# Altium integrated library National Semiconductor Amplifier.IntLib: 1665 symbols (part 1 of 44)
Pins are listed as number, name and electrical type; pins without a type are passive.

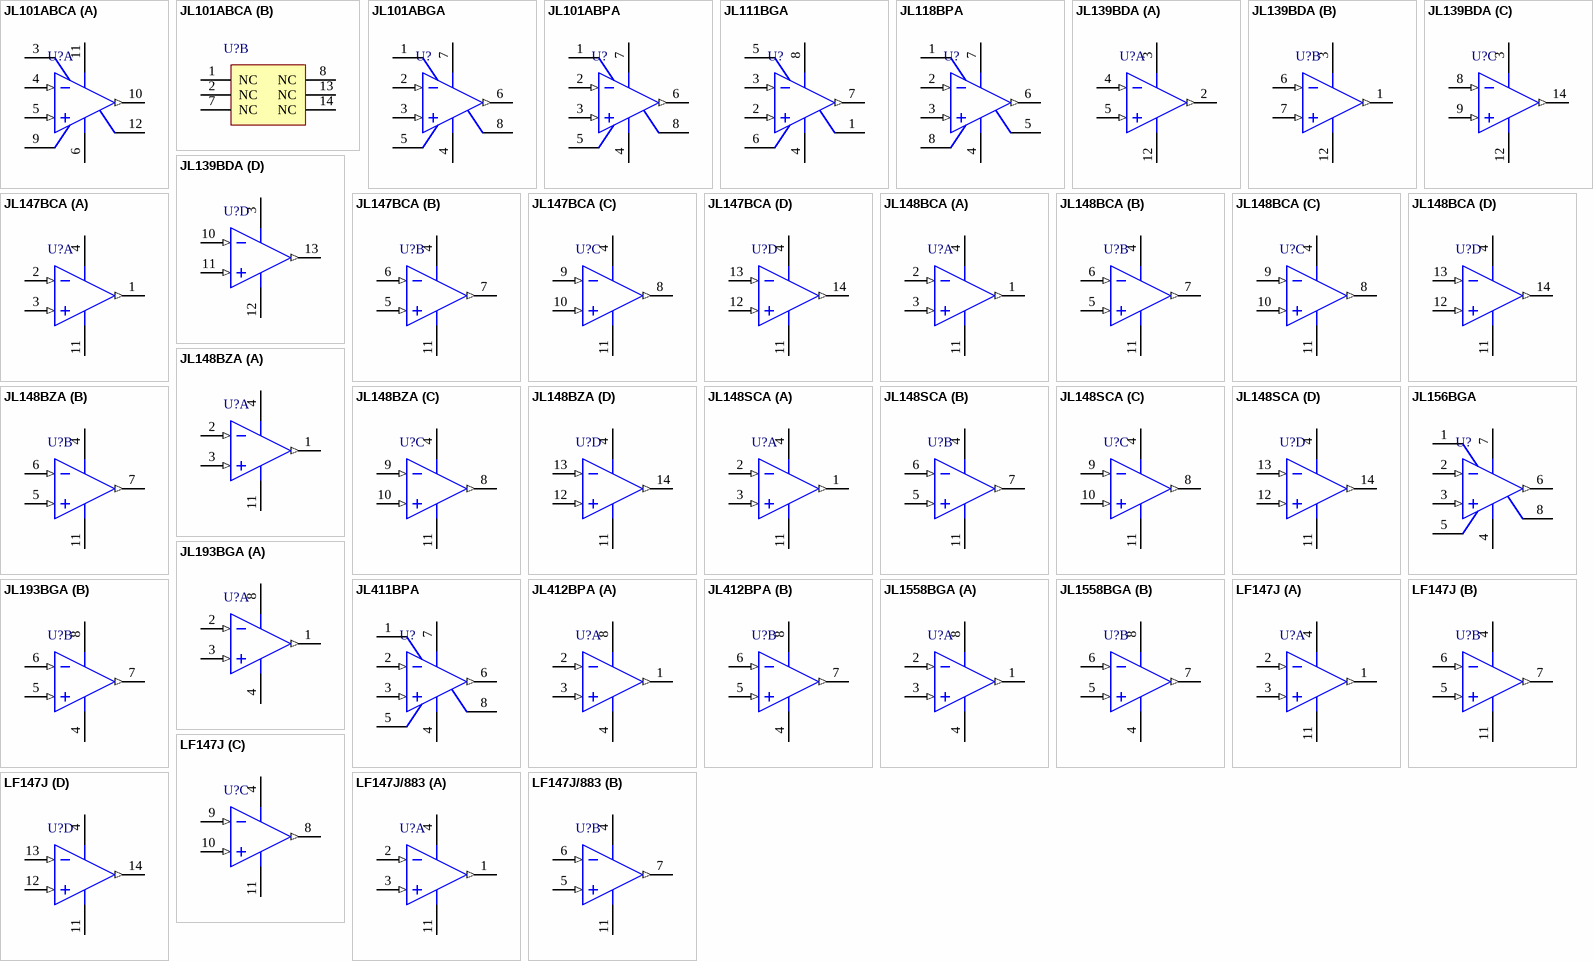
[diagram p0: symbols JL101ABCA to LF147J/883]

## JL101ABCA
designator U?
Operational Amplifier, 14-pin CerDIP; PartNumber: JL101ABCA; Manufacturer: National Semiconductor; PackageTopMarking: NS ZSSXXYYA*JM38510/10103BCA*27014 Q; PowerWise: N; CompType: Amplifiers; High-Reliability: Y; DatasheetVersion: Aug-2000; PackageVersion: revJ, Jul-2002; PackageReference: J14A; PackageDescription: Cerdip, .400 x .310in Body, 14 Lead, .300in Centers, .100in Pitch; RoHS: N; PinCount: 14; ComponentLink1Description: Manufacturer URL; ComponentLink1URL: http://www.national.com/; ComponentLink2Description: LM101AJAN Datasheet; ComponentLink2URL: http://www.national.com/ds/LM/LM101AJAN.pdf; ComponentLink3Description: LM101AJAN Web Page; ComponentLink3URL: http://www.national.com/pf/LM/LM101AJAN.html; ComponentLink4Description: J14A Package Page; ComponentLink4URL: http://www.national.com/packaging/folders/j14a.html
footprint J14A (DIP, 14-Leads, Row Spacing 7.62mm, Pitch 2.54mm, Body 19.56x6.73mm)
part A pins: 3 BAL/COMP, 4 IN- (in), 5 IN+ (in), 6 V- (power), 9 BAL, 10 OUT (out), 11 V+ (power), 12 COMP
part B pins: 1 NC, 2 NC, 7 NC, 8 NC, 13 NC, 14 NC

## JL101ABGA
designator U?
Operational Amplifier, 8-pin TO-99; PartNumber: JL101ABGA; Manufacturer: National Semiconductor; PackageTopMarking: NS ZSSXXYYA 27014 Q*JM38510/10103BGA; PowerWise: N; CompType: Amplifiers; High-Reliability: Y; DatasheetVersion: Aug-2000; PackageVersion: revF, Jun-1995; PackageReference: H08C; PackageDescription: Metal Can, TO-99, 8 Lead, .200 Dia., P.C.; RoHS: N; PinCount: 8; Code_JEDEC: TO-99; ComponentLink1Description: Manufacturer URL; ComponentLink1URL: http://www.national.com/; ComponentLink2Description: LM101AJAN Datasheet; ComponentLink2URL: http://www.national.com/ds/LM/LM101AJAN.pdf; ComponentLink3Description: LM101AJAN Web Page; ComponentLink3URL: http://www.national.com/pf/LM/LM101AJAN.html; ComponentLink4Description: H08C Package Page; ComponentLink4URL: http://www.national.com/packaging/folders/h08c.html
footprint H08C (Can; 8 Leads; Pin Circle Dia. 5.08 mm; Lead Dia. 0.48 mm (max))
pins: 1 BAL/COMP, 2 IN- (in), 3 IN+ (in), 4 V- (power), 5 BAL, 6 OUT (out), 7 V+ (power), 8 COMP

## JL101ABPA
designator U?
Operational Amplifier, 8-pin CerDIP; PartNumber: JL101ABPA; Manufacturer: National Semiconductor; PackageTopMarking: NS JM38510*/10103BPA*27014 Q*ZSSXXYYA; PowerWise: N; CompType: Amplifiers; High-Reliability: Y; DatasheetVersion: Aug-2000; PackageVersion: revM, Jul-2002; PackageReference: J08A; PackageDescription: Cerdip, .400 x .310in Body, 8 Lead, .300in Centers, .100in Pitch; RoHS: N; PinCount: 8; ComponentLink1Description: Manufacturer URL; ComponentLink1URL: http://www.national.com/; ComponentLink2Description: LM101AJAN Datasheet; ComponentLink2URL: http://www.national.com/ds/LM/LM101AJAN.pdf; ComponentLink3Description: LM101AJAN Web Page; ComponentLink3URL: http://www.national.com/pf/LM/LM101AJAN.html; ComponentLink4Description: J08A Package Page; ComponentLink4URL: http://www.national.com/packaging/folders/j08a.html
footprint J08A (DIP, 8-Leads, Row Spacing 7.62mm, Pitch 2.54mm, Body 9.78x6.73mm)
pins: 1 BAL/COMP, 2 IN- (in), 3 IN+ (in), 4 V- (power), 5 BAL, 6 OUT (out), 7 V+ (power), 8 COMP

## JL111BGA
designator U?
Voltage Comparator, 8-pin TO-99; PartNumber: JL111BGA; Manufacturer: National Semiconductor; PackageTopMarking: NS ZSSXXYYA 27014 Q*JM38510/10304BGA; PowerWise: N; CompType: Amplifiers; High-Reliability: Y; DatasheetVersion: Jan-2001; PackageVersion: revF, Jun-1995; PackageReference: H08C; PackageDescription: Metal Can, TO-99, 8 Lead, .200 Dia., P.C.; RoHS: N; PinCount: 8; Code_JEDEC: TO-99; ComponentLink1Description: Manufacturer URL; ComponentLink1URL: http://www.national.com/; ComponentLink2Description: LM111JAN Datasheet; ComponentLink2URL: http://www.national.com/ds/LM/LM111JAN.pdf; ComponentLink3Description: LM111JAN Web Page; ComponentLink3URL: http://www.national.com/pf/LM/LM111JAN.html; ComponentLink4Description: H08C Package Page; ComponentLink4URL: http://www.national.com/packaging/folders/h08c.html
footprint H08C (Can; 8 Leads; Pin Circle Dia. 5.08 mm; Lead Dia. 0.48 mm (max))
pins: 1 GND (power), 2 IN+ (in), 3 IN- (in), 4 V- (power), 5 BAL, 6 BAL/STB, 7 OUT (out), 8 V+ (power)

## JL118BPA
designator U?
Operational Amplifier, 8-pin CerDIP; PartNumber: JL118BPA; Manufacturer: National Semiconductor; PackageTopMarking: NS JM38510*/10107BPA*27014 Q*ZSSXXYYA; PowerWise: N; CompType: Amplifiers; High-Reliability: Y; DatasheetVersion: Aug-2000; PackageVersion: revM, Jul-2002; PackageReference: J08A; PackageDescription: Cerdip, .400 x .310in Body, 8 Lead, .300in Centers, .100in Pitch; RoHS: N; PinCount: 8; ComponentLink1Description: Manufacturer URL; ComponentLink1URL: http://www.national.com/; ComponentLink2Description: LM118JAN Datasheet; ComponentLink2URL: http://www.national.com/ds/LM/LM118JAN.pdf; ComponentLink3Description: LM118JAN Web Page; ComponentLink3URL: http://www.national.com/pf/LM/LM118JAN.html; ComponentLink4Description: J08A Package Page; ComponentLink4URL: http://www.national.com/packaging/folders/j08a.html
footprint J08A (DIP, 8-Leads, Row Spacing 7.62mm, Pitch 2.54mm, Body 9.78x6.73mm)
pins: 1 BAL/COMP1, 2 IN- (in), 3 IN+ (in), 4 V- (power), 5 BAL/COMP3, 6 OUT (out), 7 V+ (power), 8 COMP2

## JL139BDA
designator U?
Low Power Low Offset Voltage Quad Comparator, 14-pin CerPACK; PartNumber: JL139BDA; Manufacturer: National Semiconductor; PackageTopMarking: NSZSSXXYYA*JM38510/*11201BDA*27014 Q; PowerWise: N; CompType: Amplifiers; High-Reliability: Y; DatasheetVersion: Mar-2004; PackageVersion: revP, Jun-2004; PackageReference: W14B; PackageDescription: Cerpack, .390 x .250 x .070in Body, 14 Lead, .050in Pitch; RoHS: N; PinCount: 14; Code_JEDEC: MO-092-AB; ComponentLink1Description: Manufacturer URL; ComponentLink1URL: http://www.national.com/; ComponentLink2Description: LM139JAN Datasheet; ComponentLink2URL: http://www.national.com/ds/LM/LM139JAN.pdf; ComponentLink3Description: LM139JAN Web Page; ComponentLink3URL: http://www.national.com/pf/LM/LM139JAN.html; ComponentLink4Description: W14B Package Page; ComponentLink4URL: http://www.national.com/packaging/folders/w14b.html
footprint W14B (DFP; 14 Leads; Body 9.8 x 7.1 mm (LxW max); Pitch 1.27 mm)
pins on every part: 3 V+ (power), 12 GND (power)
part A pins: 2 OUT1 (out), 4 IN1- (in), 5 IN1+ (in)
part B pins: 1 OUT2 (out), 6 IN2- (in), 7 IN2+ (in)
part C pins: 8 IN3- (in), 9 IN3+ (in), 14 OUT3 (out)
part D pins: 10 IN4- (in), 11 IN4+ (in), 13 OUT4 (out)

## JL147BCA
designator U?
Wide Bandwidth Quad JFET Input Operational Amplifier, 14-pin CerDIP; PartNumber: JL147BCA; Manufacturer: National Semiconductor; PackageTopMarking: NS ZSSXXYYA*JM38510/11906BCA*27014 Q; PowerWise: N; CompType: Amplifiers; High-Reliability: Y; DatasheetVersion: Aug-2000; PackageVersion: revJ, Jul-2002; PackageReference: J14A; PackageDescription: Cerdip, .400 x .310in Body, 14 Lead, .300in Centers, .100in Pitch; RoHS: N; PinCount: 14; ComponentLink1Description: Manufacturer URL; ComponentLink1URL: http://www.national.com/; ComponentLink2Description: LF147JAN Datasheet; ComponentLink2URL: http://www.national.com/ds/LF/LF147JAN.pdf; ComponentLink3Description: LF147JAN Web Page; ComponentLink3URL: http://www.national.com/pf/LF/LF147JAN.html; ComponentLink4Description: J14A Package Page; ComponentLink4URL: http://www.national.com/packaging/folders/j14a.html
footprint J14A (DIP, 14-Leads, Row Spacing 7.62mm, Pitch 2.54mm, Body 19.56x6.73mm)
pins on every part: 4 V+ (power), 11 V- (power)
part A pins: 1 OUT1 (out), 2 IN1- (in), 3 IN1+ (in)
part B pins: 5 IN2+ (in), 6 IN2- (in), 7 OUT2 (out)
part C pins: 8 OUT3 (out), 9 IN3- (in), 10 IN3+ (in)
part D pins: 12 IN4+ (in), 13 IN4- (in), 14 OUT4 (out)

## JL148BCA
designator U?
Series Quad 741 Op Amp, 14-pin CerDIP; PartNumber: JL148BCA; Manufacturer: National Semiconductor; PackageTopMarking: NS ZSSXXYYA*JM38510/11001BCA*27014 Q; PowerWise: N; CompType: Amplifiers; High-Reliability: Y; DatasheetVersion: Nov-2003; PackageVersion: revJ, Jul-2002; PackageReference: J14A; PackageDescription: Cerdip, .400 x .310in Body, 14 Lead, .300in Centers, .100in Pitch; RoHS: N; PinCount: 14; ComponentLink1Description: Manufacturer URL; ComponentLink1URL: http://www.national.com/; ComponentLink2Description: LM148JAN Datasheet; ComponentLink2URL: http://www.national.com/ds/LM/LM148JAN.pdf; ComponentLink3Description: LM148JAN Web Page; ComponentLink3URL: http://www.national.com/pf/LM/LM148JAN.html; ComponentLink4Description: J14A Package Page; ComponentLink4URL: http://www.national.com/packaging/folders/j14a.html
footprint J14A (DIP, 14-Leads, Row Spacing 7.62mm, Pitch 2.54mm, Body 19.56x6.73mm)
pins on every part: 4 V+ (power), 11 V- (power)
part A pins: 1 OUT1 (out), 2 IN1- (in), 3 IN1+ (in)
part B pins: 5 IN2+ (in), 6 IN2- (in), 7 OUT2 (out)
part C pins: 8 OUT3 (out), 9 IN3- (in), 10 IN3+ (in)
part D pins: 12 IN4+ (in), 13 IN4- (in), 14 OUT4 (out)

## JL148BZA
designator U?
Series Quad 741 Op Amp, 14-pin CerPACK; PartNumber: JL148BZA; Manufacturer: National Semiconductor; PackageTopMarking: NSZSSXXYYA*JM38510/*11001BZA*27014 Q; PowerWise: N; CompType: Amplifiers; High-Reliability: Y; DatasheetVersion: Nov-2003; PackageVersion: revD, Jul-2007; PackageReference: WG14A; PackageDescription: Cerpack, .390 x .250 x .070in, 14 Lead, .050in Pitch, Gull Wing; RoHS: N; PinCount: 14; ComponentLink1Description: Manufacturer URL; ComponentLink1URL: http://www.national.com/; ComponentLink2Description: LM148 Datasheet; ComponentLink2URL: http://www.national.com/ds/LM/LM148.pdf; ComponentLink3Description: LM148 Web Page; ComponentLink3URL: http://www.national.com/pf/LM/LM148.html; ComponentLink4Description: WG14A Package Page; ComponentLink4URL: http://www.national.com/packaging/folders/wg14a.html
footprint WG14A_N (CERPACK, 14-Leads, Body 9.9x6.5mm, Pitch 1.27mm, IPC Medium Density)
footprint WG14A_L (CERPACK, 14-Leads, Body 9.9x6.5mm, Pitch 1.27mm, IPC High Density)
footprint WG14A_M (CERPACK, 14-Leads, Body 9.9x6.5mm, Pitch 1.27mm, IPC Low Density)
pins on every part: 4 V+ (power), 11 V- (power)
part A pins: 1 OUT1 (out), 2 IN1- (in), 3 IN1+ (in)
part B pins: 5 IN2+ (in), 6 IN2- (in), 7 OUT2 (out)
part C pins: 8 OUT3 (out), 9 IN3- (in), 10 IN3+ (in)
part D pins: 12 IN4+ (in), 13 IN4- (in), 14 OUT4 (out)

## JL148SCA
designator U?
Series Quad 741 Op Amp, 14-pin CerDIP; PartNumber: JL148SCA; Manufacturer: National Semiconductor; PackageTopMarking: NS ZSSXXYYA*JM38510/11001SCA*27014 Q; PowerWise: N; CompType: Amplifiers; High-Reliability: Y; DatasheetVersion: Nov-2003; PackageVersion: revJ, Jul-2002; PackageReference: J14A; PackageDescription: Cerdip, .400 x .310in Body, 14 Lead, .300in Centers, .100in Pitch; RoHS: N; PinCount: 14; ComponentLink1Description: Manufacturer URL; ComponentLink1URL: http://www.national.com/; ComponentLink2Description: LM148JAN Datasheet; ComponentLink2URL: http://www.national.com/ds/LM/LM148JAN.pdf; ComponentLink3Description: LM148JAN Web Page; ComponentLink3URL: http://www.national.com/pf/LM/LM148JAN.html; ComponentLink4Description: J14A Package Page; ComponentLink4URL: http://www.national.com/packaging/folders/j14a.html
footprint J14A (DIP, 14-Leads, Row Spacing 7.62mm, Pitch 2.54mm, Body 19.56x6.73mm)
pins on every part: 4 V+ (power), 11 V- (power)
part A pins: 1 OUT1 (out), 2 IN1- (in), 3 IN1+ (in)
part B pins: 5 IN2+ (in), 6 IN2- (in), 7 OUT2 (out)
part C pins: 8 OUT3 (out), 9 IN3- (in), 10 IN3+ (in)
part D pins: 12 IN4+ (in), 13 IN4- (in), 14 OUT4 (out)

## JL156BGA
designator U?
JFET Input Operational Amplifier, 8-pin TO-99; PartNumber: JL156BGA; Manufacturer: National Semiconductor; PackageTopMarking: NS ZSSXXYYA 27014 Q*JM38510/11402BGA; PowerWise: N; CompType: Amplifiers; High-Reliability: Y; DatasheetVersion: Dec-2001; PackageVersion: revF, Jun-1995; PackageReference: H08C; PackageDescription: Metal Can, TO-99, 8 Lead, .200 Dia., P.C.; RoHS: N; PinCount: 8; Code_JEDEC: TO-99; ComponentLink1Description: Manufacturer URL; ComponentLink1URL: http://www.national.com/; ComponentLink2Description: LF156JAN Datasheet; ComponentLink2URL: http://www.national.com/ds/LF/LF156JAN.pdf; ComponentLink3Description: LF156JAN Web Page; ComponentLink3URL: http://www.national.com/pf/LF/LF156JAN.html; ComponentLink4Description: H08C Package Page; ComponentLink4URL: http://www.national.com/packaging/folders/h08c.html
footprint H08C (Can; 8 Leads; Pin Circle Dia. 5.08 mm; Lead Dia. 0.48 mm (max))
pins: 1 BAL, 2 IN- (in), 3 IN+ (in), 4 V- (power), 5 BAL, 6 OUT (out), 7 V+ (power), 8 NC

## JL193BGA
designator U?
Low Power Low Offset Voltage Dual Comparator, 8-pin TO-99; PartNumber: JL193BGA; Manufacturer: National Semiconductor; PackageTopMarking: NS ZSSXXYYA 27014 Q*JM38510/11202BGA; PowerWise: N; CompType: Amplifiers; High-Reliability: Y; DatasheetVersion: Aug-2002; PackageVersion: revF, Jun-1995; PackageReference: H08C; PackageDescription: Metal Can, TO-99, 8 Lead, .200 Dia., P.C.; RoHS: N; PinCount: 8; Code_JEDEC: TO-99; ComponentLink1Description: Manufacturer URL; ComponentLink1URL: http://www.national.com/; ComponentLink2Description: LM193JAN Datasheet; ComponentLink2URL: http://www.national.com/ds/LM/LM193JAN.pdf; ComponentLink3Description: LM193JAN Web Page; ComponentLink3URL: http://www.national.com/pf/LM/LM193JAN.html; ComponentLink4Description: H08C Package Page; ComponentLink4URL: http://www.national.com/packaging/folders/h08c.html
footprint H08C (Can; 8 Leads; Pin Circle Dia. 5.08 mm; Lead Dia. 0.48 mm (max))
pins on every part: 4 GND (power), 8 V+ (power)
part A pins: 1 OUTA (out), 2 INA- (in), 3 INA+ (in)
part B pins: 5 INB+ (in), 6 INB- (in), 7 OUTB (out)

## JL411BPA
designator U?
Low Offset, Low Drift JFET Input Operational Amplifier, 8-pin CerDIP; PartNumber: JL411BPA; Manufacturer: National Semiconductor; PackageTopMarking: NS JM38510*/11904BPA*27014 Q*ZSSXXYYA; PowerWise: N; CompType: Amplifiers; High-Reliability: Y; DatasheetVersion: Oct-2005; PackageVersion: revM, Jul-2002; PackageReference: J08A; PackageDescription: Cerdip, .400 x .310in Body, 8 Lead, .300in Centers, .100in Pitch; RoHS: N; PinCount: 8; ComponentLink1Description: Manufacturer URL; ComponentLink1URL: http://www.national.com/; ComponentLink2Description: LF411JAN Datasheet; ComponentLink2URL: http://www.national.com/ds/LF/LF411JAN.pdf; ComponentLink3Description: LF411JAN Web Page; ComponentLink3URL: http://www.national.com/pf/LF/LF411JAN.html; ComponentLink4Description: J08A Package Page; ComponentLink4URL: http://www.national.com/packaging/folders/j08a.html
footprint J08A (DIP, 8-Leads, Row Spacing 7.62mm, Pitch 2.54mm, Body 9.78x6.73mm)
pins: 1 BAL, 2 IN- (in), 3 IN+ (in), 4 V- (power), 5 BAL, 6 OUT (out), 7 V+ (power), 8 NC

## JL412BPA
designator U?
Low Offset, Low Drift Dual JFET Input Operational Amplifier, 8-pin CerDIP; PartNumber: JL412BPA; Manufacturer: National Semiconductor; PackageTopMarking: NS JM38510*/11905BPA*27014 Q*ZSSXXYYA; PowerWise: N; CompType: Amplifiers; High-Reliability: Y; DatasheetVersion: Jan-2010; PackageVersion: revM, Jul-2002; PackageReference: J08A; PackageDescription: Cerdip, .400 x .310in Body, 8 Lead, .300in Centers, .100in Pitch; RoHS: N; PinCount: 8; ComponentLink1Description: Manufacturer URL; ComponentLink1URL: http://www.national.com/; ComponentLink2Description: LF412JAN Datasheet; ComponentLink2URL: http://www.national.com/ds/LF/LF412JAN.pdf; ComponentLink3Description: LF412JAN Web Page; ComponentLink3URL: http://www.national.com/pf/LF/LF412JAN.html; ComponentLink4Description: J08A Package Page; ComponentLink4URL: http://www.national.com/packaging/folders/j08a.html
footprint J08A (DIP, 8-Leads, Row Spacing 7.62mm, Pitch 2.54mm, Body 9.78x6.73mm)
pins on every part: 4 V- (power), 8 V+ (power)
part A pins: 1 OUTA (out), 2 INA- (in), 3 INA+ (in)
part B pins: 5 INB+ (in), 6 INB- (in), 7 OUTB (out)

## JL1558BGA
designator U?
Dual Operational Amplifier, 8-pin TO-99; PartNumber: JL1558BGA; Manufacturer: National Semiconductor; PackageTopMarking: NS ZSSXXYYA 27014 Q*JM38510/10108BGA; PowerWise: N; CompType: Amplifiers; High-Reliability: Y; DatasheetVersion: Aug-2003; PackageVersion: revF, Jun-1995; PackageReference: H08C; PackageDescription: Metal Can, TO-99, 8 Lead, .200 Dia., P.C.; RoHS: N; PinCount: 8; Code_JEDEC: TO-99; ComponentLink1Description: Manufacturer URL; ComponentLink1URL: http://www.national.com/; ComponentLink2Description: LM1558JAN Datasheet; ComponentLink2URL: http://www.national.com/ds/LM/LM1558JAN.pdf; ComponentLink3Description: LM1558JAN Web Page; ComponentLink3URL: http://www.national.com/pf/LM/LM1558JAN.html; ComponentLink4Description: H08C Package Page; ComponentLink4URL: http://www.national.com/packaging/folders/h08c.html
footprint H08C (Can; 8 Leads; Pin Circle Dia. 5.08 mm; Lead Dia. 0.48 mm (max))
pins on every part: 4 V- (power), 8 V+ (power)
part A pins: 1 OUTA (out), 2 INA- (in), 3 INA+ (in)
part B pins: 5 INB+ (in), 6 INB- (in), 7 OUTB (out)

## LF147J
designator U?
Wide Bandwidth Quad JFET Input Operational Amplifier, 14-pin CerDIP; PartNumber: LF147J; Manufacturer: National Semiconductor; PackageTopMarking: NSUZXYYTT*LF147J; PowerWise: N; CompType: Amplifiers; High-Reliability: Y; DatasheetVersion: Aug-2000; PackageVersion: revJ, Jul-2002; PackageReference: J14A; PackageDescription: Cerdip, .400 x .310in Body, 14 Lead, .300in Centers, .100in Pitch; RoHS: N; PinCount: 14; ComponentLink1Description: Manufacturer URL; ComponentLink1URL: http://www.national.com/; ComponentLink2Description: LF147 Datasheet; ComponentLink2URL: http://www.national.com/ds/LF/LF147.pdf; ComponentLink3Description: LF147 Web Page; ComponentLink3URL: http://www.national.com/pf/LF/LF147.html; ComponentLink4Description: J14A Package Page; ComponentLink4URL: http://www.national.com/packaging/folders/j14a.html
footprint J14A (DIP, 14-Leads, Row Spacing 7.62mm, Pitch 2.54mm, Body 19.56x6.73mm)
pins on every part: 4 V+ (power), 11 V- (power)
part A pins: 1 OUT1 (out), 2 IN1- (in), 3 IN1+ (in)
part B pins: 5 IN2+ (in), 6 IN2- (in), 7 OUT2 (out)
part C pins: 8 OUT3 (out), 9 IN3- (in), 10 IN3+ (in)
part D pins: 12 IN4+ (in), 13 IN4- (in), 14 OUT4 (out)

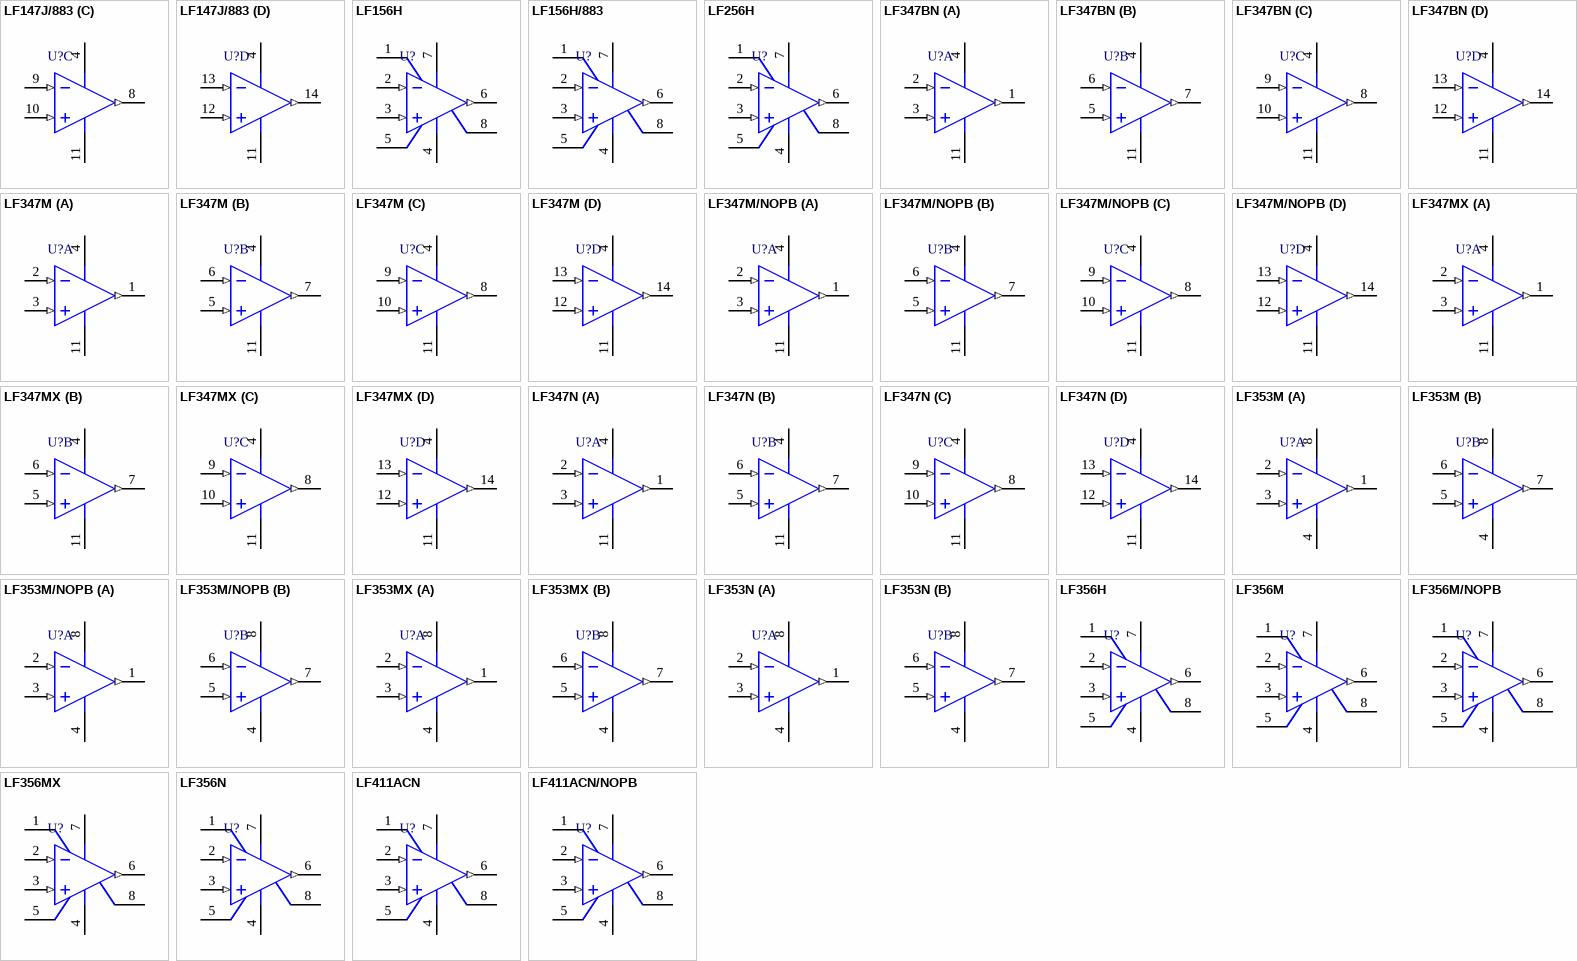
[diagram p1: symbols LF147J/883 to LF411ACN/NOPB]

## LF147J/883
designator U?
Wide Bandwidth Quad JFET Input Operational Amplifier, 14-pin CerDIP; PartNumber: LF147J/883; Manufacturer: National Semiconductor; PackageTopMarking: NSZSSXXYYA*LF147J/883 Q; PowerWise: N; CompType: Amplifiers; High-Reliability: Y; DatasheetVersion: Aug-2000; PackageVersion: revJ, Jul-2002; PackageReference: J14A; PackageDescription: Cerdip, .400 x .310in Body, 14 Lead, .300in Centers, .100in Pitch; RoHS: N; PinCount: 14; ComponentLink1Description: Manufacturer URL; ComponentLink1URL: http://www.national.com/; ComponentLink2Description: LF147 Datasheet; ComponentLink2URL: http://www.national.com/ds/LF/LF147QML.pdf; ComponentLink3Description: LF147 Web Page; ComponentLink3URL: http://www.national.com/pf/LF/LF147.html; ComponentLink4Description: J14A Package Page; ComponentLink4URL: http://www.national.com/packaging/folders/j14a.html
footprint J14A (DIP, 14-Leads, Row Spacing 7.62mm, Pitch 2.54mm, Body 19.56x6.73mm)
pins on every part: 4 V+ (power), 11 V- (power)
part A pins: 1 OUT1 (out), 2 IN1- (in), 3 IN1+ (in)
part B pins: 5 IN2+ (in), 6 IN2- (in), 7 OUT2 (out)
part C pins: 8 OUT3 (out), 9 IN3- (in), 10 IN3+ (in)
part D pins: 12 IN4+ (in), 13 IN4- (in), 14 OUT4 (out)

## LF156H
designator U?
JFET Input Operational Amplifier, 8-pin TO-99; PartNumber: LF156H; Manufacturer: National Semiconductor; PackageTopMarking: NSZXYTTE# LF156H; PowerWise: N; CompType: Amplifiers; High-Reliability: Y; DatasheetVersion: Dec-2001; PackageVersion: revF, Jun-1995; PackageReference: H08C; PackageDescription: Metal Can, TO-99, 8 Lead, .200 Dia., P.C.; RoHS: N; PinCount: 8; Code_JEDEC: TO-99; ComponentLink1Description: Manufacturer URL; ComponentLink1URL: http://www.national.com/; ComponentLink2Description: LF156 Datasheet; ComponentLink2URL: http://www.national.com/ds/LF/LF156.pdf; ComponentLink3Description: LF156 Web Page; ComponentLink3URL: http://www.national.com/pf/LF/LF156.html; ComponentLink4Description: H08C Package Page; ComponentLink4URL: http://www.national.com/packaging/folders/h08c.html
footprint H08C (Can; 8 Leads; Pin Circle Dia. 5.08 mm; Lead Dia. 0.48 mm (max))
pins: 1 BAL, 2 IN- (in), 3 IN+ (in), 4 V- (power), 5 BAL, 6 OUT (out), 7 V+ (power), 8 NC

## LF156H/883
designator U?
JFET Input Operational Amplifier, 8-pin TO-99; PartNumber: LF156; Manufacturer: National Semiconductor; PackageTopMarking: NSZSSXXYYA LF156H/883 Q; PowerWise: N; CompType: Amplifiers; High-Reliability: Y; DatasheetVersion: Dec-2001; PackageVersion: revF, Jun-1995; PackageReference: H08C; PackageDescription: Metal Can, TO-99, 8 Lead, .200 Dia., P.C.; RoHS: N; PinCount: 8; Code_JEDEC: TO-99; ComponentLink1Description: Manufacturer URL; ComponentLink1URL: http://www.national.com/; ComponentLink2Description: LF156 Datasheet; ComponentLink2URL: http://www.national.com/ds/LF/LF156QML.pdf; ComponentLink3Description: LF156 Web Page; ComponentLink3URL: http://www.national.com/pf/LF/LF156.html; ComponentLink4Description: H08C Package Page; ComponentLink4URL: http://www.national.com/packaging/folders/h08c.html
footprint H08C (Can; 8 Leads; Pin Circle Dia. 5.08 mm; Lead Dia. 0.48 mm (max))
pins: 1 BAL, 2 IN- (in), 3 IN+ (in), 4 V- (power), 5 BAL, 6 OUT (out), 7 V+ (power), 8 NC

## LF256H
designator U?
JFET Input Operational Amplifier, 8-pin TO-99; PartNumber: LF256H; Manufacturer: National Semiconductor; PackageTopMarking: NSZXYTTE# LF256H; PowerWise: N; CompType: Amplifiers; High-Reliability: Y; DatasheetVersion: Dec-2001; PackageVersion: revF, Jun-1995; PackageReference: H08C; PackageDescription: Metal Can, TO-99, 8 Lead, .200 Dia., P.C.; RoHS: N; PinCount: 8; Code_JEDEC: TO-99; ComponentLink1Description: Manufacturer URL; ComponentLink1URL: http://www.national.com/; ComponentLink2Description: LF256 Datasheet; ComponentLink2URL: http://www.national.com/ds/LF/LF256.pdf; ComponentLink3Description: LF256 Web Page; ComponentLink3URL: http://www.national.com/pf/LF/LF256.html; ComponentLink4Description: H08C Package Page; ComponentLink4URL: http://www.national.com/packaging/folders/h08c.html
footprint H08C (Can; 8 Leads; Pin Circle Dia. 5.08 mm; Lead Dia. 0.48 mm (max))
pins: 1 BAL, 2 IN- (in), 3 IN+ (in), 4 V- (power), 5 BAL, 6 OUT (out), 7 V+ (power), 8 NC

## LF347BN
designator U?
Wide Bandwidth Quad JFET Input Operational Amplifier, 14-pin MDIP; PartNumber: LF347BN; Manufacturer: National Semiconductor; PackageTopMarking: NSUZXYYTTE#*LF347BN; PowerWise: N; CompType: Amplifiers; High-Reliability: Y; DatasheetVersion: Aug-2000; PackageVersion: revG, May-2006; PackageReference: N14A; PackageDescription: MDIP, .750 x .250 x.130in, 14 Lead, .100in Pitch; RoHS: N; PinCount: 14; Code_JEDEC: MS-001-AA; ComponentLink1Description: Manufacturer URL; ComponentLink1URL: http://www.national.com/; ComponentLink2Description: LF347 Datasheet; ComponentLink2URL: http://www.national.com/ds/LF/LF347.pdf; ComponentLink3Description: LF347 Web Page; ComponentLink3URL: http://www.national.com/pf/LF/LF347.html; ComponentLink4Description: N14A Package Page; ComponentLink4URL: http://www.national.com/packaging/folders/n14a.html
footprint N14A (DIP, 14-Leads, Row Spacing 7.62mm, Pitch 2.54mm, Body 19.56x6.35mm)
pins on every part: 4 V+ (power), 11 V- (power)
part A pins: 1 OUT1 (out), 2 IN1- (in), 3 IN1+ (in)
part B pins: 5 IN2+ (in), 6 IN2- (in), 7 OUT2 (out)
part C pins: 8 OUT3 (out), 9 IN3- (in), 10 IN3+ (in)
part D pins: 12 IN4+ (in), 13 IN4- (in), 14 OUT4 (out)

## LF347M
designator U?
Wide Bandwidth Quad JFET Input Operational Amplifier, 14-pin Narrow SOIC; PartNumber: LF347M; Manufacturer: National Semiconductor; PackageTopMarking: NSUZXYTTE#*LF347M; PowerWise: N; CompType: Amplifiers; High-Reliability: Y; DatasheetVersion: Aug-2000; PackageVersion: revJ, Jan-1996; PackageReference: M14A; PackageDescription: Molded Package S.O., .150in Wide, 14 Lead; RoHS: N; PinCount: 14; Code_JEDEC: MS-012AB; Code_IPC: SOIC127P600-14; ComponentLink1Description: Manufacturer URL; ComponentLink1URL: http://www.national.com/; ComponentLink2Description: LF347 Datasheet; ComponentLink2URL: http://www.national.com/ds/LF/LF347.pdf; ComponentLink3Description: LF347 Web Page; ComponentLink3URL: http://www.national.com/pf/LF/LF347.html; ComponentLink4Description: M14A Package Page; ComponentLink4URL: http://www.national.com/packaging/folders/m14a.html
footprint M14A_N (SOIC, 14-Leads, Body 8.6x3.9mm, Pitch 1.27mm, IPC Medium Density)
footprint M14A_L (SOIC, 14-Leads, Body 8.6x3.9mm, Pitch 1.27mm, IPC High Density)
footprint M14A_M (SOIC, 14-Leads, Body 8.6x3.9mm, Pitch 1.27mm, IPC Low Density)
pins on every part: 4 V+ (power), 11 V- (power)
part A pins: 1 OUT1 (out), 2 IN1- (in), 3 IN1+ (in)
part B pins: 5 IN2+ (in), 6 IN2- (in), 7 OUT2 (out)
part C pins: 8 OUT3 (out), 9 IN3- (in), 10 IN3+ (in)
part D pins: 12 IN4+ (in), 13 IN4- (in), 14 OUT4 (out)

## LF347M/NOPB
designator U?
Wide Bandwidth Quad JFET Input Operational Amplifier, 14-pin Narrow SOIC, Pb-Free; PartNumber: LF347M/NOPB; Manufacturer: National Semiconductor; PackageTopMarking: NSUZXYTTE#*LF347M; PowerWise: N; CompType: Amplifiers; High-Reliability: Y; DatasheetVersion: Aug-2000; PackageVersion: revJ, Jan-1996; PackageReference: M14A; PackageDescription: Molded Package S.O., .150in Wide, 14 Lead; RoHS: Y; PinCount: 14; Code_JEDEC: MS-012AB; Code_IPC: SOIC127P600-14; ComponentLink1Description: Manufacturer URL; ComponentLink1URL: http://www.national.com/; ComponentLink2Description: LF347 Datasheet; ComponentLink2URL: http://www.national.com/ds/LF/LF347.pdf; ComponentLink3Description: LF347 Web Page; ComponentLink3URL: http://www.national.com/pf/LF/LF347.html; ComponentLink4Description: M14A Package Page; ComponentLink4URL: http://www.national.com/packaging/folders/m14a.html
footprint M14A_N (SOIC, 14-Leads, Body 8.6x3.9mm, Pitch 1.27mm, IPC Medium Density)
footprint M14A_L (SOIC, 14-Leads, Body 8.6x3.9mm, Pitch 1.27mm, IPC High Density)
footprint M14A_M (SOIC, 14-Leads, Body 8.6x3.9mm, Pitch 1.27mm, IPC Low Density)
pins on every part: 4 V+ (power), 11 V- (power)
part A pins: 1 OUT1 (out), 2 IN1- (in), 3 IN1+ (in)
part B pins: 5 IN2+ (in), 6 IN2- (in), 7 OUT2 (out)
part C pins: 8 OUT3 (out), 9 IN3- (in), 10 IN3+ (in)
part D pins: 12 IN4+ (in), 13 IN4- (in), 14 OUT4 (out)

## LF347MX
designator U?
Wide Bandwidth Quad JFET Input Operational Amplifier, 14-pin Narrow SOIC; PartNumber: LF347MX; Manufacturer: National Semiconductor; PackageTopMarking: NSUZXYTTE#*LF347M; PowerWise: N; CompType: Amplifiers; High-Reliability: Y; DatasheetVersion: Aug-2000; PackageVersion: revJ, Jan-1996; PackageReference: M14A; PackageDescription: Molded Package S.O., .150in Wide, 14 Lead; RoHS: N; PinCount: 14; Code_JEDEC: MS-012AB; Code_IPC: SOIC127P600-14; ComponentLink1Description: Manufacturer URL; ComponentLink1URL: http://www.national.com/; ComponentLink2Description: LF347 Datasheet; ComponentLink2URL: http://www.national.com/ds/LF/LF347.pdf; ComponentLink3Description: LF347 Web Page; ComponentLink3URL: http://www.national.com/pf/LF/LF347.html; ComponentLink4Description: M14A Package Page; ComponentLink4URL: http://www.national.com/packaging/folders/m14a.html
footprint M14A_N (SOIC, 14-Leads, Body 8.6x3.9mm, Pitch 1.27mm, IPC Medium Density)
footprint M14A_L (SOIC, 14-Leads, Body 8.6x3.9mm, Pitch 1.27mm, IPC High Density)
footprint M14A_M (SOIC, 14-Leads, Body 8.6x3.9mm, Pitch 1.27mm, IPC Low Density)
pins on every part: 4 V+ (power), 11 V- (power)
part A pins: 1 OUT1 (out), 2 IN1- (in), 3 IN1+ (in)
part B pins: 5 IN2+ (in), 6 IN2- (in), 7 OUT2 (out)
part C pins: 8 OUT3 (out), 9 IN3- (in), 10 IN3+ (in)
part D pins: 12 IN4+ (in), 13 IN4- (in), 14 OUT4 (out)

## LF347N
designator U?
Wide Bandwidth Quad JFET Input Operational Amplifier, 14-pin MDIP; PartNumber: LF347N; Manufacturer: National Semiconductor; PackageTopMarking: NSUZXYYTTE#*LF347N; PowerWise: N; CompType: Amplifiers; High-Reliability: Y; DatasheetVersion: Aug-2000; PackageVersion: revG, May-2006; PackageReference: N14A; PackageDescription: MDIP, .750 x .250 x.130in, 14 Lead, .100in Pitch; RoHS: N; PinCount: 14; Code_JEDEC: MS-001-AA; ComponentLink1Description: Manufacturer URL; ComponentLink1URL: http://www.national.com/; ComponentLink2Description: LF347 Datasheet; ComponentLink2URL: http://www.national.com/ds/LF/LF347.pdf; ComponentLink3Description: LF347 Web Page; ComponentLink3URL: http://www.national.com/pf/LF/LF347.html; ComponentLink4Description: N14A Package Page; ComponentLink4URL: http://www.national.com/packaging/folders/n14a.html
footprint N14A (DIP, 14-Leads, Row Spacing 7.62mm, Pitch 2.54mm, Body 19.56x6.35mm)
pins on every part: 4 V+ (power), 11 V- (power)
part A pins: 1 OUT1 (out), 2 IN1- (in), 3 IN1+ (in)
part B pins: 5 IN2+ (in), 6 IN2- (in), 7 OUT2 (out)
part C pins: 8 OUT3 (out), 9 IN3- (in), 10 IN3+ (in)
part D pins: 12 IN4+ (in), 13 IN4- (in), 14 OUT4 (out)

## LF353M
designator U?
Wide Bandwidth Dual JFET Input Operational Amplifier, 8-pin Narrow SOIC; PartNumber: LF353M; Manufacturer: National Semiconductor; PackageTopMarking: NSZXTT*LF353*M; PowerWise: N; CompType: Amplifiers; High-Reliability: Y; DatasheetVersion: Dec-2003; PackageVersion: revM, May-2009; PackageReference: M08A; PackageDescription: SOIC Narrow, 4.9 x 3.9 x 1.45mm, 8 Lead, 1.27mm Pitch; RoHS: N; PinCount: 8; Code_JEDEC: MS-012-AA; Code_IPC: SOIC127P600-8; ComponentLink1Description: Manufacturer URL; ComponentLink1URL: http://www.national.com/; ComponentLink2Description: LF353 Datasheet; ComponentLink2URL: http://www.national.com/ds/LF/LF353.pdf; ComponentLink3Description: LF353 Web Page; ComponentLink3URL: http://www.national.com/pf/LF/LF353.html; ComponentLink4Description: M08A Package Page; ComponentLink4URL: http://www.national.com/packaging/folders/m08a.html
footprint M08A_N (SOIC, 8-Leads, Body 4.9x3.9mm, Pitch 1.27mm, IPC Medium Density)
footprint M08A_L (SOIC, 8-Leads, Body 4.9x3.9mm, Pitch 1.27mm, IPC High Density)
footprint M08A_M (SOIC, 8-Leads, Body 4.9x3.9mm, Pitch 1.27mm, IPC Low Density)
pins on every part: 4 V- (power), 8 V+ (power)
part A pins: 1 OUTA (out), 2 INA- (in), 3 INA+ (in)
part B pins: 5 INB+ (in), 6 INB- (in), 7 OUTB (out)

## LF353M/NOPB
designator U?
Wide Bandwidth Dual JFET Input Operational Amplifier, 8-pin Narrow SOIC, Pb-Free; PartNumber: LF353M/NOPB; Manufacturer: National Semiconductor; PackageTopMarking: NSZXTT*LF353*M; PowerWise: N; CompType: Amplifiers; High-Reliability: Y; DatasheetVersion: Dec-2003; PackageVersion: revM, May-2009; PackageReference: M08A; PackageDescription: SOIC Narrow, 4.9 x 3.9 x 1.45mm, 8 Lead, 1.27mm Pitch; RoHS: Y; PinCount: 8; Code_JEDEC: MS-012-AA; Code_IPC: SOIC127P600-8; ComponentLink1Description: Manufacturer URL; ComponentLink1URL: http://www.national.com/; ComponentLink2Description: LF353 Datasheet; ComponentLink2URL: http://www.national.com/ds/LF/LF353.pdf; ComponentLink3Description: LF353 Web Page; ComponentLink3URL: http://www.national.com/pf/LF/LF353.html; ComponentLink4Description: M08A Package Page; ComponentLink4URL: http://www.national.com/packaging/folders/m08a.html
footprint M08A_N (SOIC, 8-Leads, Body 4.9x3.9mm, Pitch 1.27mm, IPC Medium Density)
footprint M08A_L (SOIC, 8-Leads, Body 4.9x3.9mm, Pitch 1.27mm, IPC High Density)
footprint M08A_M (SOIC, 8-Leads, Body 4.9x3.9mm, Pitch 1.27mm, IPC Low Density)
pins on every part: 4 V- (power), 8 V+ (power)
part A pins: 1 OUTA (out), 2 INA- (in), 3 INA+ (in)
part B pins: 5 INB+ (in), 6 INB- (in), 7 OUTB (out)

## LF353MX
designator U?
Wide Bandwidth Dual JFET Input Operational Amplifier, 8-pin Narrow SOIC; PartNumber: LF353MX; Manufacturer: National Semiconductor; PackageTopMarking: NSZXTT*LF353*M; PowerWise: N; CompType: Amplifiers; High-Reliability: Y; DatasheetVersion: Dec-2003; PackageVersion: revM, May-2009; PackageReference: M08A; PackageDescription: SOIC Narrow, 4.9 x 3.9 x 1.45mm, 8 Lead, 1.27mm Pitch; RoHS: N; PinCount: 8; Code_JEDEC: MS-012-AA; Code_IPC: SOIC127P600-8; ComponentLink1Description: Manufacturer URL; ComponentLink1URL: http://www.national.com/; ComponentLink2Description: LF353 Datasheet; ComponentLink2URL: http://www.national.com/ds/LF/LF353.pdf; ComponentLink3Description: LF353 Web Page; ComponentLink3URL: http://www.national.com/pf/LF/LF353.html; ComponentLink4Description: M08A Package Page; ComponentLink4URL: http://www.national.com/packaging/folders/m08a.html
footprint M08A_N (SOIC, 8-Leads, Body 4.9x3.9mm, Pitch 1.27mm, IPC Medium Density)
footprint M08A_L (SOIC, 8-Leads, Body 4.9x3.9mm, Pitch 1.27mm, IPC High Density)
footprint M08A_M (SOIC, 8-Leads, Body 4.9x3.9mm, Pitch 1.27mm, IPC Low Density)
pins on every part: 4 V- (power), 8 V+ (power)
part A pins: 1 OUTA (out), 2 INA- (in), 3 INA+ (in)
part B pins: 5 INB+ (in), 6 INB- (in), 7 OUTB (out)

## LF353N
designator U?
Wide Bandwidth Dual JFET Input Operational Amplifier, 8-pin MDIP; PartNumber: LF353N; Manufacturer: National Semiconductor; PackageTopMarking: NSUZXYTTE#*LF*353N; PowerWise: N; CompType: Amplifiers; High-Reliability: Y; DatasheetVersion: Dec-2003; PackageVersion: revG, May-2006; PackageReference: N08E; PackageDescription: MDIP, .365 x .250 x .130in, 8 Lead, .100in Pitch; RoHS: N; PinCount: 8; Code_JEDEC: MS-001-BA; ComponentLink1Description: Manufacturer URL; ComponentLink1URL: http://www.national.com/; ComponentLink2Description: LF353 Datasheet; ComponentLink2URL: http://www.national.com/ds/LF/LF353.pdf; ComponentLink3Description: LF353 Web Page; ComponentLink3URL: http://www.national.com/pf/LF/LF353.html; ComponentLink4Description: N08E Package Page; ComponentLink4URL: http://www.national.com/packaging/folders/n08e.html
footprint N08E (DIP, 8-Leads, Row Spacing 7.62mm, Pitch 2.54mm, Body 9.91x6.35mm)
pins on every part: 4 V- (power), 8 V+ (power)
part A pins: 1 OUTA (out), 2 INA- (in), 3 INA+ (in)
part B pins: 5 INB+ (in), 6 INB- (in), 7 OUTB (out)

## LF356H
designator U?
JFET Input Operational Amplifier, 8-pin TO-99; PartNumber: LF356H; Manufacturer: National Semiconductor; PackageTopMarking: NSZXYTTE# LF356H; PowerWise: N; CompType: Amplifiers; High-Reliability: Y; DatasheetVersion: Dec-2001; PackageVersion: revF, Jun-1995; PackageReference: H08C; PackageDescription: Metal Can, TO-99, 8 Lead, .200 Dia., P.C.; RoHS: N; PinCount: 8; Code_JEDEC: TO-99; ComponentLink1Description: Manufacturer URL; ComponentLink1URL: http://www.national.com/; ComponentLink2Description: LF356 Datasheet; ComponentLink2URL: http://www.national.com/ds/LF/LF356.pdf; ComponentLink3Description: LF356 Web Page; ComponentLink3URL: http://www.national.com/pf/LF/LF356.html; ComponentLink4Description: H08C Package Page; ComponentLink4URL: http://www.national.com/packaging/folders/h08c.html
footprint H08C (Can; 8 Leads; Pin Circle Dia. 5.08 mm; Lead Dia. 0.48 mm (max))
pins: 1 BAL, 2 IN- (in), 3 IN+ (in), 4 V- (power), 5 BAL, 6 OUT (out), 7 V+ (power), 8 NC

## LF356M
designator U?
JFET Input Operational Amplifier, 8-pin Narrow SOIC; PartNumber: LF356M; Manufacturer: National Semiconductor; PackageTopMarking: NSZXTT*LF356*M; PowerWise: N; CompType: Amplifiers; High-Reliability: Y; DatasheetVersion: Dec-2001; PackageVersion: revM, May-2009; PackageReference: M08A; PackageDescription: SOIC Narrow, 4.9 x 3.9 x 1.45mm, 8 Lead, 1.27mm Pitch; RoHS: N; PinCount: 8; Code_JEDEC: MS-012-AA; Code_IPC: SOIC127P600-8; ComponentLink1Description: Manufacturer URL; ComponentLink1URL: http://www.national.com/; ComponentLink2Description: LF356 Datasheet; ComponentLink2URL: http://www.national.com/ds/LF/LF356.pdf; ComponentLink3Description: LF356 Web Page; ComponentLink3URL: http://www.national.com/pf/LF/LF356.html; ComponentLink4Description: M08A Package Page; ComponentLink4URL: http://www.national.com/packaging/folders/m08a.html
footprint M08A_N (SOIC, 8-Leads, Body 4.9x3.9mm, Pitch 1.27mm, IPC Medium Density)
footprint M08A_L (SOIC, 8-Leads, Body 4.9x3.9mm, Pitch 1.27mm, IPC High Density)
footprint M08A_M (SOIC, 8-Leads, Body 4.9x3.9mm, Pitch 1.27mm, IPC Low Density)
pins: 1 BAL, 2 IN- (in), 3 IN+ (in), 4 V- (power), 5 BAL, 6 OUT (out), 7 V+ (power), 8 NC

## LF356M/NOPB
designator U?
JFET Input Operational Amplifier, 8-pin Narrow SOIC, Pb-Free; PartNumber: LF356M/NOPB; Manufacturer: National Semiconductor; PackageTopMarking: NSZXTT*LF356*M; PowerWise: N; CompType: Amplifiers; High-Reliability: Y; DatasheetVersion: Dec-2001; PackageVersion: revM, May-2009; PackageReference: M08A; PackageDescription: SOIC Narrow, 4.9 x 3.9 x 1.45mm, 8 Lead, 1.27mm Pitch; RoHS: Y; PinCount: 8; Code_JEDEC: MS-012-AA; Code_IPC: SOIC127P600-8; ComponentLink1Description: Manufacturer URL; ComponentLink1URL: http://www.national.com/; ComponentLink2Description: LF356 Datasheet; ComponentLink2URL: http://www.national.com/ds/LF/LF356.pdf; ComponentLink3Description: LF356 Web Page; ComponentLink3URL: http://www.national.com/pf/LF/LF356.html; ComponentLink4Description: M08A Package Page; ComponentLink4URL: http://www.national.com/packaging/folders/m08a.html
footprint M08A_N (SOIC, 8-Leads, Body 4.9x3.9mm, Pitch 1.27mm, IPC Medium Density)
footprint M08A_L (SOIC, 8-Leads, Body 4.9x3.9mm, Pitch 1.27mm, IPC High Density)
footprint M08A_M (SOIC, 8-Leads, Body 4.9x3.9mm, Pitch 1.27mm, IPC Low Density)
pins: 1 BAL, 2 IN- (in), 3 IN+ (in), 4 V- (power), 5 BAL, 6 OUT (out), 7 V+ (power), 8 NC

## LF356MX
designator U?
JFET Input Operational Amplifier, 8-pin Narrow SOIC; PartNumber: LF356MX; Manufacturer: National Semiconductor; PackageTopMarking: NSZXTT*LF356*M; PowerWise: N; CompType: Amplifiers; High-Reliability: Y; DatasheetVersion: Dec-2001; PackageVersion: revM, May-2009; PackageReference: M08A; PackageDescription: SOIC Narrow, 4.9 x 3.9 x 1.45mm, 8 Lead, 1.27mm Pitch; RoHS: N; PinCount: 8; Code_JEDEC: MS-012-AA; Code_IPC: SOIC127P600-8; ComponentLink1Description: Manufacturer URL; ComponentLink1URL: http://www.national.com/; ComponentLink2Description: LF356 Datasheet; ComponentLink2URL: http://www.national.com/ds/LF/LF356.pdf; ComponentLink3Description: LF356 Web Page; ComponentLink3URL: http://www.national.com/pf/LF/LF356.html; ComponentLink4Description: M08A Package Page; ComponentLink4URL: http://www.national.com/packaging/folders/m08a.html
footprint M08A_N (SOIC, 8-Leads, Body 4.9x3.9mm, Pitch 1.27mm, IPC Medium Density)
footprint M08A_L (SOIC, 8-Leads, Body 4.9x3.9mm, Pitch 1.27mm, IPC High Density)
footprint M08A_M (SOIC, 8-Leads, Body 4.9x3.9mm, Pitch 1.27mm, IPC Low Density)
pins: 1 BAL, 2 IN- (in), 3 IN+ (in), 4 V- (power), 5 BAL, 6 OUT (out), 7 V+ (power), 8 NC

## LF356N
designator U?
JFET Input Operational Amplifier, 8-pin MDIP; PartNumber: LF356N; Manufacturer: National Semiconductor; PackageTopMarking: NSUZXYTTE#*LF*356N; PowerWise: N; CompType: Amplifiers; High-Reliability: Y; DatasheetVersion: Dec-2001; PackageVersion: revG, May-2006; PackageReference: N08E; PackageDescription: MDIP, .365 x .250 x .130in, 8 Lead, .100in Pitch; RoHS: N; PinCount: 8; Code_JEDEC: MS-001-BA; ComponentLink1Description: Manufacturer URL; ComponentLink1URL: http://www.national.com/; ComponentLink2Description: LF356 Datasheet; ComponentLink2URL: http://www.national.com/ds/LF/LF356.pdf; ComponentLink3Description: LF356 Web Page; ComponentLink3URL: http://www.national.com/pf/LF/LF356.html; ComponentLink4Description: N08E Package Page; ComponentLink4URL: http://www.national.com/packaging/folders/n08e.html
footprint N08E (DIP, 8-Leads, Row Spacing 7.62mm, Pitch 2.54mm, Body 9.91x6.35mm)
pins: 1 BAL, 2 IN- (in), 3 IN+ (in), 4 V- (power), 5 BAL, 6 OUT (out), 7 V+ (power), 8 NC

## LF411ACN
designator U?
Low Offset, Low Drift JFET Input Operational Amplifier, 8-pin MDIP; PartNumber: LF411ACN; Manufacturer: National Semiconductor; PackageTopMarking: NSUZXYTTE#*LF*411ACN; PowerWise: N; CompType: Amplifiers; High-Reliability: Y; DatasheetVersion: Aug-2000; PackageVersion: revG, May-2006; PackageReference: N08E; PackageDescription: MDIP, .365 x .250 x .130in, 8 Lead, .100in Pitch; RoHS: N; PinCount: 8; Code_JEDEC: MS-001-BA; ComponentLink1Description: Manufacturer URL; ComponentLink1URL: http://www.national.com/; ComponentLink2Description: LF411 Datasheet; ComponentLink2URL: http://www.national.com/ds/LF/LF411.pdf; ComponentLink3Description: LF411 Web Page; ComponentLink3URL: http://www.national.com/pf/LF/LF411.html; ComponentLink4Description: N08E Package Page; ComponentLink4URL: http://www.national.com/packaging/folders/n08e.html
footprint N08E (DIP, 8-Leads, Row Spacing 7.62mm, Pitch 2.54mm, Body 9.91x6.35mm)
pins: 1 BAL, 2 IN- (in), 3 IN+ (in), 4 V- (power), 5 BAL, 6 OUT (out), 7 V+ (power), 8 NC

## LF411ACN/NOPB
designator U?
Low Offset, Low Drift JFET Input Operational Amplifier, 8-pin MDIP, Pb-Free; PartNumber: LF411ACN/NOPB; Manufacturer: National Semiconductor; PackageTopMarking: NSUZXYTTE#*LF*411ACN; PowerWise: N; CompType: Amplifiers; High-Reliability: Y; DatasheetVersion: Aug-2000; PackageVersion: revG, May-2006; PackageReference: N08E; PackageDescription: MDIP, .365 x .250 x .130in, 8 Lead, .100in Pitch; RoHS: Y; PinCount: 8; Code_JEDEC: MS-001-BA; ComponentLink1Description: Manufacturer URL; ComponentLink1URL: http://www.national.com/; ComponentLink2Description: LF411 Datasheet; ComponentLink2URL: http://www.national.com/ds/LF/LF411.pdf; ComponentLink3Description: LF411 Web Page; ComponentLink3URL: http://www.national.com/pf/LF/LF411.html; ComponentLink4Description: N08E Package Page; ComponentLink4URL: http://www.national.com/packaging/folders/n08e.html
footprint N08E (DIP, 8-Leads, Row Spacing 7.62mm, Pitch 2.54mm, Body 9.91x6.35mm)
pins: 1 BAL, 2 IN- (in), 3 IN+ (in), 4 V- (power), 5 BAL, 6 OUT (out), 7 V+ (power), 8 NC

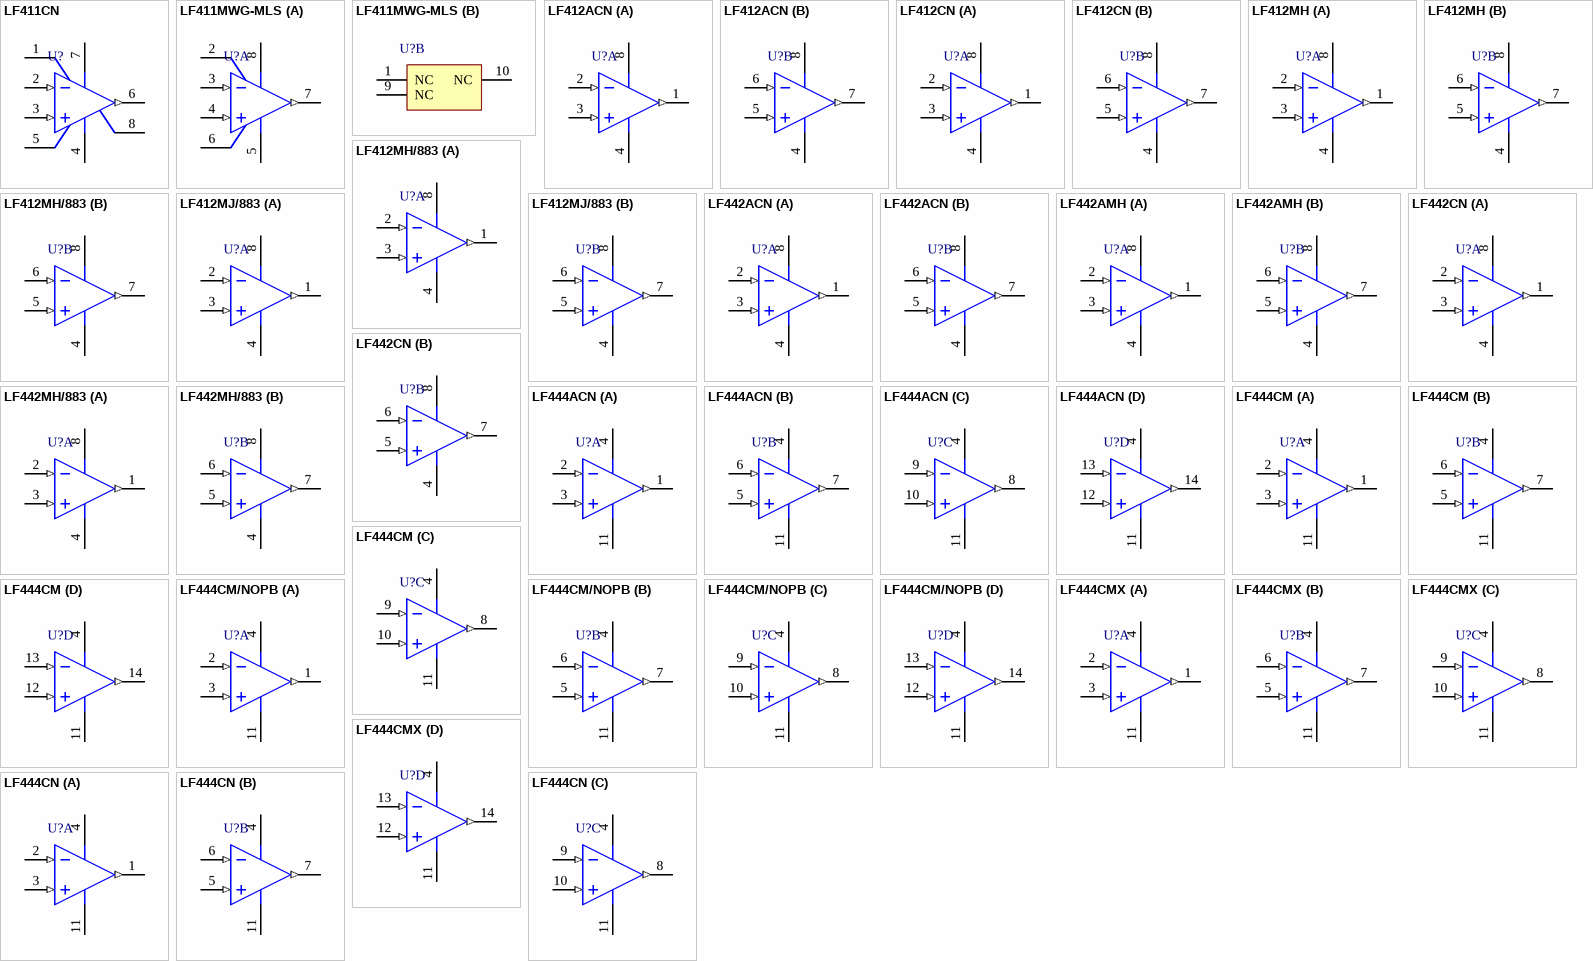
[diagram p2: symbols LF411CN to LF444CN]

## LF411CN
designator U?
Low Offset, Low Drift JFET Input Operational Amplifier, 8-pin MDIP; PartNumber: LF411CN; Manufacturer: National Semiconductor; PackageTopMarking: NSUZXYTTE#*LF*411CN; PowerWise: N; CompType: Amplifiers; High-Reliability: Y; DatasheetVersion: Aug-2000; PackageVersion: revG, May-2006; PackageReference: N08E; PackageDescription: MDIP, .365 x .250 x .130in, 8 Lead, .100in Pitch; RoHS: N; PinCount: 8; Code_JEDEC: MS-001-BA; ComponentLink1Description: Manufacturer URL; ComponentLink1URL: http://www.national.com/; ComponentLink2Description: LF411 Datasheet; ComponentLink2URL: http://www.national.com/ds/LF/LF411.pdf; ComponentLink3Description: LF411 Web Page; ComponentLink3URL: http://www.national.com/pf/LF/LF411.html; ComponentLink4Description: N08E Package Page; ComponentLink4URL: http://www.national.com/packaging/folders/n08e.html
footprint N08E (DIP, 8-Leads, Row Spacing 7.62mm, Pitch 2.54mm, Body 9.91x6.35mm)
pins: 1 BAL, 2 IN- (in), 3 IN+ (in), 4 V- (power), 5 BAL, 6 OUT (out), 7 V+ (power), 8 NC

## LF411MWG-MLS
designator U?
Low Offset, Low Drift JFET Input Operational Amplifier, 10-pin CerPACK; PartNumber: LF411MWG-MLS; Manufacturer: National Semiconductor; PackageTopMarking: NS*ZSSXXYYA*LF411MWG*MLS; PowerWise: N; CompType: Amplifiers; High-Reliability: Y; DatasheetVersion: May-2007; PackageVersion: revF, Oct-2008; PackageReference: WG10A; PackageDescription: Cerpack, .270 x .241 x .070in, 10 Lead, .050in Pitch, Gull Wing; RoHS: N; PinCount: 10; ComponentLink1Description: Manufacturer URL; ComponentLink1URL: http://www.national.com/; ComponentLink2Description: LF411 Datasheet; ComponentLink2URL: http://www.national.com/ds/LF/LF411QML.pdf; ComponentLink3Description: LF411 Web Page; ComponentLink3URL: http://www.national.com/pf/LF/LF411.html; ComponentLink4Description: WG10A Package Page; ComponentLink4URL: http://www.national.com/packaging/folders/wg10a.html
footprint WG10A_N (CERPACK, 10-Leads, Body 6.9x6.3mm, Pitch 1.27mm, IPC Medium Density)
footprint WG10A_L (CERPACK, 10-Leads, Body 6.9x6.3mm, Pitch 1.27mm, IPC High Density)
footprint WG10A_M (CERPACK, 10-Leads, Body 6.9x6.3mm, Pitch 1.27mm, IPC Low Density)
part A pins: 2 BAL, 3 IN- (in), 4 IN+ (in), 5 V- (power), 6 BAL, 7 OUT (out), 8 V+ (power)
part B pins: 1 NC, 9 NC, 10 NC

## LF412ACN
designator U?
Low Offset, Low Drift Dual JFET Input Operational Amplifier, 8-pin MDIP; PartNumber: LF412ACN; Manufacturer: National Semiconductor; PackageTopMarking: NSUZXYTTE#*LF*412ACN; PowerWise: N; CompType: Amplifiers; High-Reliability: Y; DatasheetVersion: Jan-2010; PackageVersion: revG, May-2006; PackageReference: N08E; PackageDescription: MDIP, .365 x .250 x .130in, 8 Lead, .100in Pitch; RoHS: N; PinCount: 8; Code_JEDEC: MS-001-BA; ComponentLink1Description: Manufacturer URL; ComponentLink1URL: http://www.national.com/; ComponentLink2Description: LF412 Datasheet; ComponentLink2URL: http://www.national.com/ds/LF/LF412.pdf; ComponentLink3Description: LF412 Web Page; ComponentLink3URL: http://www.national.com/pf/LF/LF412.html; ComponentLink4Description: N08E Package Page; ComponentLink4URL: http://www.national.com/packaging/folders/n08e.html
footprint N08E (DIP, 8-Leads, Row Spacing 7.62mm, Pitch 2.54mm, Body 9.91x6.35mm)
pins on every part: 4 V- (power), 8 V+ (power)
part A pins: 1 OUTA (out), 2 INA- (in), 3 INA+ (in)
part B pins: 5 INB+ (in), 6 INB- (in), 7 OUTB (out)

## LF412CN
designator U?
Low Offset, Low Drift Dual JFET Input Operational Amplifier, 8-pin MDIP; PartNumber: LF412CN; Manufacturer: National Semiconductor; PackageTopMarking: NSUZXYTTE#*LF*412CN; PowerWise: N; CompType: Amplifiers; High-Reliability: Y; DatasheetVersion: Jan-2010; PackageVersion: revG, May-2006; PackageReference: N08E; PackageDescription: MDIP, .365 x .250 x .130in, 8 Lead, .100in Pitch; RoHS: N; PinCount: 8; Code_JEDEC: MS-001-BA; ComponentLink1Description: Manufacturer URL; ComponentLink1URL: http://www.national.com/; ComponentLink2Description: LF412 Datasheet; ComponentLink2URL: http://www.national.com/ds/LF/LF412.pdf; ComponentLink3Description: LF412 Web Page; ComponentLink3URL: http://www.national.com/pf/LF/LF412.html; ComponentLink4Description: N08E Package Page; ComponentLink4URL: http://www.national.com/packaging/folders/n08e.html
footprint N08E (DIP, 8-Leads, Row Spacing 7.62mm, Pitch 2.54mm, Body 9.91x6.35mm)
pins on every part: 4 V- (power), 8 V+ (power)
part A pins: 1 OUTA (out), 2 INA- (in), 3 INA+ (in)
part B pins: 5 INB+ (in), 6 INB- (in), 7 OUTB (out)

## LF412MH
designator U?
Low Offset, Low Drift Dual JFET Input Operational Amplifier, 8-pin TO-5; PartNumber: LF412MH; Manufacturer: National Semiconductor; PackageTopMarking: NSZXYTTE# LF412MH; PowerWise: N; CompType: Amplifiers; High-Reliability: Y; DatasheetVersion: Jan-2010; PackageVersion: revC, Sep-1988; PackageReference: H08A; PackageDescription: 8 Lead, .230in Dia., P.C. Metal Can Package (H); RoHS: N; PinCount: 8; ComponentLink1Description: Manufacturer URL; ComponentLink1URL: http://www.national.com/; ComponentLink2Description: LF412 Datasheet; ComponentLink2URL: http://www.national.com/ds/LF/LF412.pdf; ComponentLink3Description: LF412 Web Page; ComponentLink3URL: http://www.national.com/pf/LF/LF412.html; ComponentLink4Description: H08A Package Page; ComponentLink4URL: http://www.national.com/packaging/folders/h08a.html
footprint H08A (Can; 8 Leads; Pin Circle Dia. 5.84 mm; Lead Dia. 0.48 mm (max))
pins on every part: 4 V- (power), 8 V+ (power)
part A pins: 1 OUTA (out), 2 INA- (in), 3 INA+ (in)
part B pins: 5 INB+ (in), 6 INB- (in), 7 OUTB (out)

## LF412MH/883
designator U?
Low Offset, Low Drift Dual JFET Input Operational Amplifier, 8-pin TO-99; PartNumber: LF412; Manufacturer: National Semiconductor; PackageTopMarking: NSZSSXXYYA LF412MH/883 Q; PowerWise: N; CompType: Amplifiers; High-Reliability: Y; DatasheetVersion: Jan-2010; PackageVersion: revF, Jun-1995; PackageReference: H08C; PackageDescription: Metal Can, TO-99, 8 Lead, .200 Dia., P.C.; RoHS: N; PinCount: 8; Code_JEDEC: TO-99; ComponentLink1Description: Manufacturer URL; ComponentLink1URL: http://www.national.com/; ComponentLink2Description: LF412 Datasheet; ComponentLink2URL: http://www.national.com/ds/LF/LF412QML.pdf; ComponentLink3Description: LF412 Web Page; ComponentLink3URL: http://www.national.com/pf/LF/LF412.html; ComponentLink4Description: H08C Package Page; ComponentLink4URL: http://www.national.com/packaging/folders/h08c.html
footprint H08C (Can; 8 Leads; Pin Circle Dia. 5.08 mm; Lead Dia. 0.48 mm (max))
pins on every part: 4 V- (power), 8 V+ (power)
part A pins: 1 OUTA (out), 2 INA- (in), 3 INA+ (in)
part B pins: 5 INB+ (in), 6 INB- (in), 7 OUTB (out)

## LF412MJ/883
designator U?
Low Offset, Low Drift Dual JFET Input Operational Amplifier, 8-pin CerDIP; PartNumber: LF412MJ/883; Manufacturer: National Semiconductor; PackageTopMarking: NSZSSXXYYA*LF412MJ/*883 Q; PowerWise: N; CompType: Amplifiers; High-Reliability: Y; DatasheetVersion: Jan-2010; PackageVersion: revM, Jul-2002; PackageReference: J08A; PackageDescription: Cerdip, .400 x .310in Body, 8 Lead, .300in Centers, .100in Pitch; RoHS: N; PinCount: 8; ComponentLink1Description: Manufacturer URL; ComponentLink1URL: http://www.national.com/; ComponentLink2Description: LF412 Datasheet; ComponentLink2URL: http://www.national.com/ds/LF/LF412QML.pdf; ComponentLink3Description: LF412 Web Page; ComponentLink3URL: http://www.national.com/pf/LF/LF412.html; ComponentLink4Description: J08A Package Page; ComponentLink4URL: http://www.national.com/packaging/folders/j08a.html
footprint J08A (DIP, 8-Leads, Row Spacing 7.62mm, Pitch 2.54mm, Body 9.78x6.73mm)
pins on every part: 4 V- (power), 8 V+ (power)
part A pins: 1 OUTA (out), 2 INA- (in), 3 INA+ (in)
part B pins: 5 INB+ (in), 6 INB- (in), 7 OUTB (out)